# Altium footprint library PCB_REAL2.PcbLib: 35 footprints (part 2 of 3)
Each footprint in its own frame and in the unit in brackets; x right, y up, seen from the top. Pads: shape width x height; smd on the part's side, far side on the other; paste and mask are expansions set on the pad; w line width, h text height; cw(c..) or ccw(c..) is an arc to the next point about the centre after c.
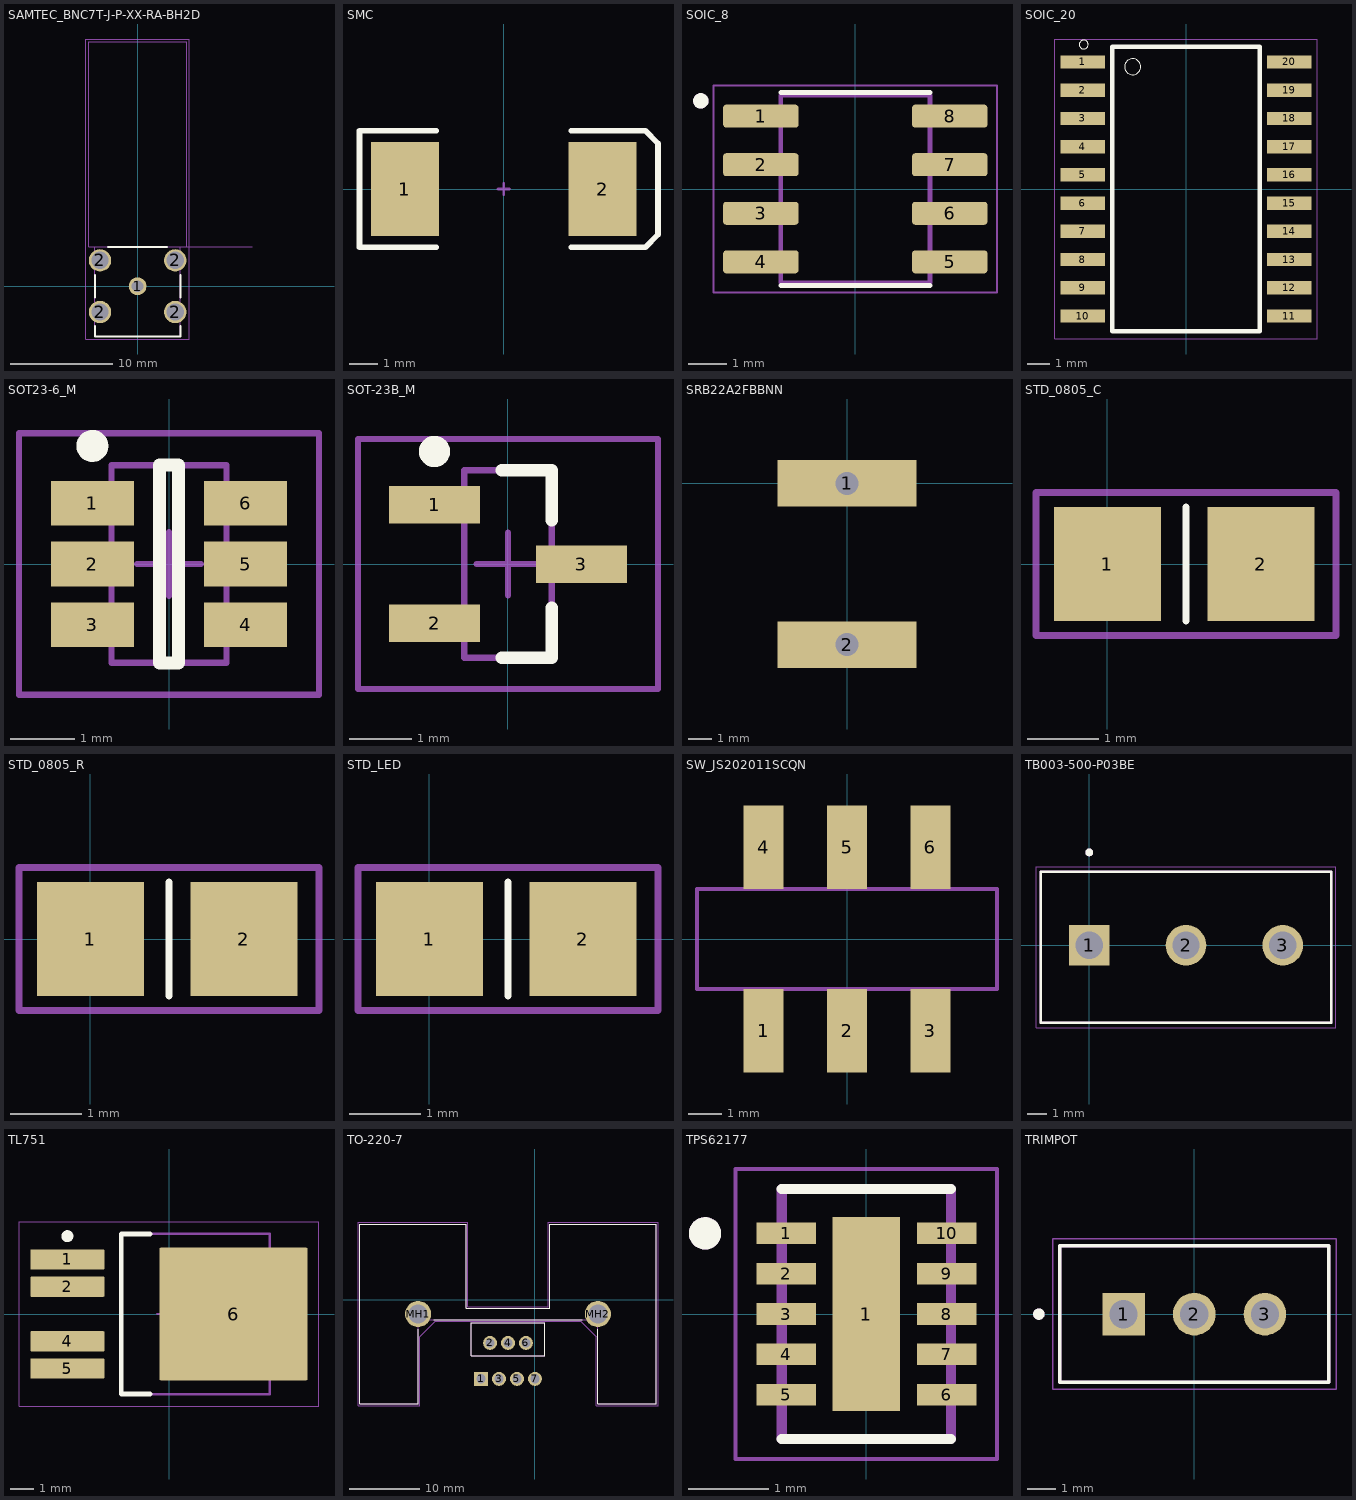
[diagram p1: the footprints below, top view; thin cyan lines are the x and y axes]

## SAMTEC_BNC7T-J-P-XX-RA-BH2D [mm]
pads (5):
  round 1.755 hole 1.17: 1(0,0)
  round 2.2 hole 1.7: 2(-3.7,-2.54) 2(-3.7,2.54) 2(3.7,-2.54) 2(3.7,2.54)
Top Overlay:
  lines w0.2: -4.2,-3.9 -4.2,-4.94 4.2,-4.94 4.2,-3.9 ; -4.2,-1.1 -4.2,1.1 ; -2.9,3.86 2.9,3.86 ; 4.2,-1.1 4.2,1.1
Mechanical 13:
  lines w0.1: 11.25,3.86 4.825,3.86 ; -4.2,3.86 4.2,3.86 ; -4.2,3.86 -4.2,-4.94 4.2,-4.94 4.2,3.86 ; -4.2,3.86 -4.825,3.86 -4.825,24.06 4.825,24.06 4.825,3.86 ; 4.2,3.86 4.825,3.86
  text "PCB Edge" at 5.75,4.1 h1.27
Mechanical 15:
  lines w0.05: -5.075,-5.19 5.075,-5.19 5.075,24.31 -5.075,24.31 -5.075,-5.19
3D body "BNC7T-J-P-HN-RA-BH2D.stp": height 12, standoff -4.5, extent -8,-4.76 8,24.24

## SMC [mm]
pads (2):
  rect 2.4x3.3 smd: 1(-3.475,0) 2(3.475,0)
Top Overlay:
  lines w0.2: -2.375,-2.05 -5.075,-2.05 -5.075,2.05 -2.375,2.05 ; 2.375,-2.05 4.975,-2.05 5.425,-1.6 5.425,1.6 4.975,2.055 ; 2.375,2.05 4.975,2.05
Mechanical 1:
  lines w0.1: -0.2,0 0.2,0 ; 0,-0.2 0,0.2

## SOIC_8 [mm]
pads (8):
  rrect25% 1.97x0.6 smd: 1(-2.47,1.905) 2(-2.47,0.635) 3(-2.47,-0.635) 4(-2.47,-1.905) 5(2.47,-1.905) 6(2.47,-0.635) 7(2.47,0.635) 8(2.47,1.905)
Top Overlay:
  circle w0.2: c-4.04,2.305 r0.1
  lines w0.127: -1.95,-2.525 1.95,-2.525 ; -1.95,2.525 1.95,2.525
Mechanical 13:
  circle w0.2: c-4.04,2.305 r0.1
  lines w0.127: -1.95,-2.452 -1.95,2.452 1.95,2.452 1.95,-2.452 -1.95,-2.452
Mechanical 15:
  lines w0.05: -3.705,-2.702 -3.705,2.702 3.705,2.702 3.705,-2.702 -3.705,-2.702
3D body "OP07CDR.STEP": height 1.75, standoff 0, extent -2.997,-2.451 2.997,2.451

## SOIC_20 [mm]
pads (20):
  rect 2x0.6 smd: 1(-4.65,5.715) 2(-4.65,4.445) 3(-4.65,3.175) 4(-4.65,1.905) 5(-4.65,0.635) 6(-4.65,-0.635) 7(-4.65,-1.905) 8(-4.65,-3.175) 9(-4.65,-4.445) 10(-4.65,-5.715) 11(4.65,-5.715) 12(4.65,-4.445) 13(4.65,-3.175) 14(4.65,-1.905) 15(4.65,-0.635) 16(4.65,0.635) 17(4.65,1.905) 18(4.65,3.175) 19(4.65,4.445) 20(4.65,5.715)
Top Overlay:
  circle w0: c-2.4,5.5 r0.361
  circle w0: c-4.6,6.5 r0.2
  lines w0.2: -3.325,-6.4 3.325,-6.4 3.325,6.4 -3.325,6.4 -3.325,-6.4
Mechanical 15:
  lines w0.05: -5.9,-6.75 -5.9,6.75 5.9,6.75 5.9,-6.75 -5.9,-6.75
3D body "AD630ARZ.STEP": height 2.6, standoff -0.05, extent -5.175,-6.4 5.15,6.4

## SOT23-6_M [mm]
pads (6):
  rect 1.3x0.7 smd: 1(-1.2,0.95) 2(-1.2,0) 3(-1.2,-0.95) 4(1.2,-0.95) 5(1.2,0) 6(1.2,0.95)
Top Overlay:
  circle w0.25: c-1.2,1.85 r0.125
  lines w0.2: -0.15,-1.55 0.15,-1.55 0.15,1.55 -0.15,1.55 -0.15,-1.55
Mechanical 13:
  lines w0.1: -0.9,-1.55 -0.9,1.55 0.9,1.55 0.9,-1.55 -0.9,-1.55
Mechanical 15:
  lines w0.1: -0.5,0 0.5,0 ; 0,-0.5 0,0.5 ; -2.35,-2.05 -2.35,2.05 2.35,2.05 2.35,-2.05 -2.35,-2.05
3D body "LTC1983ES6-5.STEP": height -0.51, standoff -1.96, extent -1.4,-1.45 1.4,1.45

## SOT-23B_M [mm]
pads (3):
  rect 1.45x0.6 smd: 1(-1.175,0.95) 2(-1.175,-0.95) 3(1.175,0)
Top Overlay:
  circle w0.25: c-1.175,1.8 r0.125
  lines w0.2: -0.1,-1.5 0.7,-1.5 0.7,-0.7 ; -0.1,1.5 0.7,1.5 0.7,0.7
Mechanical 13:
  lines w0.1: -0.7,-1.5 0.7,-1.5 0.7,1.5 -0.7,1.5 -0.7,-1.5
Mechanical 15:
  lines w0.1: -0.5,0 0.5,0 ; 0,-0.5 0,0.5 ; -2.4,-2 2.4,-2 2.4,2 -2.4,2 -2.4,-2
3D body "TL431CDBZRG4.STEP": height -0.38, standoff -1.5, extent -1.227,-1.524 1.143,1.396

## SRB22A2FBBNN [mm]
pads (2):
  rect 6x2 hole 1 square: 1(0,0) 2(0,-6.985)

## STD_0805_C [mm]
pads (2):
  rect 1.5x1.6 smd: 1(0,0) 2(2.15,0)
Top Overlay:
  lines w0.1: 1.1,-0.8 1.1,0.8
Mechanical 15:
  lines w0.1: -1,-1 3.2,-1 3.2,1 -1,1 -1,-1
3D body "GRM21BC81A226ME44K.STEP": height 1.22, standoff -0.03, extent 0.1,-0.725 2.1,0.725

## STD_0805_R [mm]
pads (2):
  rect 1.5x1.6 smd: 1(0,0) 2(2.15,0)
Top Overlay:
  lines w0.1: 1.1,-0.8 1.1,0.8
Mechanical 15:
  lines w0.1: -1,-1 3.2,-1 3.2,1 -1,1 -1,-1
3D body "RUT2012FR200CS.STEP": height 0.65, standoff 0, extent 0.1,-0.625 2.1,0.625

## STD_LED [mm]
pads (2):
  rect 1.5x1.6 smd: 1(0,0) 2(2.15,0)
Top Overlay:
  lines w0.1: 1.1,-0.8 1.1,0.8
Mechanical 15:
  lines w0.1: -1,-1 3.2,-1 3.2,1 -1,1 -1,-1
3D body "SML-D12U1WT86.STEP": height -0.38, standoff -0.93, extent 0.216,-0.4 1.816,0.4

## SW_JS202011SCQN [mm]
pads (6):
  rect 1.2x2.5 smd: 1(-2.5,-2.75) 2(0,-2.75) 3(2.5,-2.75) 4(-2.5,2.75) 5(0,2.75) 6(2.5,2.75)
Mechanical 13:
  lines w0.127: -4.5,-1.5 -4.5,1.5 4.5,1.5 4.5,-1.5 -4.5,-1.5
3D body "JS202011SCQN--3DModel-STEP-56544.STEP": height 5.51, standoff 0, extent -4.496,-3.746 4.496,3.747

## TB003-500-P03BE [mm]
pads (3):
  rect 2.1x2.1 hole 1.4: 1(0,0)
  round 2.1 hole 1.4: 2(5,0) 3(10,0)
Top Overlay:
  circle w0.2: c0,4.8 r0.1
  lines w0.127: -2.5,-4 -2.5,3.8 12.5,3.8 12.5,-4 -2.5,-4
Mechanical 13:
  circle w0.2: c0,4.8 r0.1
  lines w0.127: -2.5,-4 -2.5,3.8 12.5,3.8 12.5,-4 -2.5,-4
Mechanical 15:
  lines w0.05: -2.75,-4.25 12.75,-4.25 12.75,4.05 -2.75,4.05 -2.75,-4.25
3D body "CUI_DEVICES_TB003-500-P03BE.step": height 3.62, standoff -10.68, extent -2.543,-3.863 12.957,3.937

## TL751 [mm]
pads (5):
  rrect12% 3.1x0.85 smd: 1(-4.25,2.28) 2(-4.25,1.14) 4(-4.25,-1.14) 5(-4.25,-2.28)
  rrect2% 6.2x5.55 smd: 6(2.7,0)
Top Overlay:
  circle w0.25: c-4.25,3.255 r0.125
  lines w0.2: -0.8,-3.35 -2,-3.35 -2,3.35 -0.8,3.35
Mechanical 13:
  lines w0.1: -2,-3.35 4.22,-3.35 4.22,3.35 -2,3.35 -2,-3.35
Mechanical 15:
  lines w0.05: -6.275,-3.85 6.275,-3.85 6.275,3.85 -6.275,3.85 -6.275,-3.85
  lines w0.1: -0.5,0 0.5,0 ; 0,-0.5 0,0.5
3D body: height 2.39, standoff 0, extent -2,-3.35 4.22,3.35

## TO-220-7 [mil]
pads (9):
  rect 78x78 hole 52: 1(-300,-441)
  round 78 hole 52: 2(-250,-241) 3(-200,-441) 4(-150,-241) 5(-100,-441) 6(-50,-241) 7(0,-441)
  round 145.12 hole 105.12: MH1(-650,-80) MH2(350,-80)
Top Overlay:
  lines w5: -650,-165.43 -650,-580 -975,-580 -975,420 -382.87,420 -382.87,-48.9 82.87,-48.9 82.87,420 675,420 675,-580 350,-580 350,-165.43 ; -564.57,-110.71 264.57,-110.71
  lines w6: -355,-313 55,-313 55,-128 -355,-128 -355,-313
Mechanical 4:
  lines w6: -355,-313 55,-313 ; -355,-313 -355,-128 ; -355,-313 55,-313 ; -355,-313 -355,-128 ; -355,-128 55,-128 ; -355,-128 55,-128 ; 55,-313 55,-128 ; 55,-313 55,-128
Mechanical 13:
  lines w5: -975,-580 -650,-580 -650,-110.71 350,-110.71 350,-580 675,-580 675,420 82.87,420 82.87,-48.9 -382.87,-48.9 -382.87,420 -975,420 -975,-580
Mechanical 15:
  lines w1.97: -984.84,-589.84 -640.16,-589.84 -640.16,-205.98 -554.72,-120.55 254.72,-120.55 340.16,-205.98 340.16,-589.84 684.84,-589.84 684.84,429.84 73.03,429.84 73.03,-39.06 -373.03,-39.06 -373.03,429.84 -984.84,429.84 -984.84,-589.84
3D body "NOPB.STEP": height 188.15, standoff -966.85, extent -349.99,-309.99 50.01,-129.99
3D body "6399BG--3DModel-STEP-56544.STEP": height 116.63, standoff -2039.37, extent -979.99,-579.99 670.01,420.01

## TPS62177 [mm]
pads (11):
  rect 0.74x0.27 smd: 1(-0.995,1) 2(-0.995,0.5) 3(-0.995,0) 4(-0.995,-0.5) 5(-0.995,-1) 6(0.995,-1) 7(0.995,-0.5) 8(0.995,0) 9(0.995,0.5) 10(0.995,1)
  rect 0.84x2.4 smd: 1(0,0)
Top Overlay:
  circle w0.2: c-2,1 r0.1
  lines w0.127: -1.05,-1.55 1.05,-1.55 ; -1.05,1.55 1.05,1.55
Mechanical 4:
  circle w0.2: c-2,1 r0.1
  circle w0.2: c-2,1 r0.1
  lines w0.127: -1.05,-1.55 -1.05,1.55 ; -1.05,-1.55 1.05,-1.55 ; -1.05,-1.55 -1.05,1.55 ; -1.05,-1.55 1.05,-1.55 ; -1.05,1.55 1.05,1.55 ; -1.05,1.55 1.05,1.55 ; 1.05,-1.55 1.05,1.55 ; 1.05,-1.55 1.05,1.55
Mechanical 16:
  lines w0.05: -1.62,-1.8 -1.62,1.8 1.62,1.8 1.62,-1.8 -1.62,-1.8
3D body "TPS62177DQCR.STEP": height -0.38, standoff -1.18, extent -1,-1.5 1,1.5

## TRIMPOT [mm]
pads (3):
  rect 1.508x1.508 hole 1: 1(-2.5,0)
  round 1.508 hole 1: 2(0,0) 3(2.5,0)
Top Overlay:
  circle w0.2: c-5.5,0 r0.1
  lines w0.127: -4.765,-2.41 4.765,-2.41 4.765,2.42 -4.765,2.42 -4.765,-2.41
Mechanical 13:
  circle w0.2: c-5.5,0 r0.1
  lines w0.127: -4.765,-2.41 4.765,-2.41 4.765,2.42 -4.765,2.42 -4.765,-2.41
Mechanical 15:
  lines w0.05: -5.015,-2.66 5.015,-2.66 5.015,2.67 -5.015,2.67 -5.015,-2.66
3D body "3296W-1-102ALF.STEP": height 7.21, standoff -12.06, extent -4.765,-2.413 4.765,2.417